# Altium schematic symbol library projet_6e_session.SchLib: 18 symbols
Pins are listed as number, name and electrical type; pins without a type are passive.

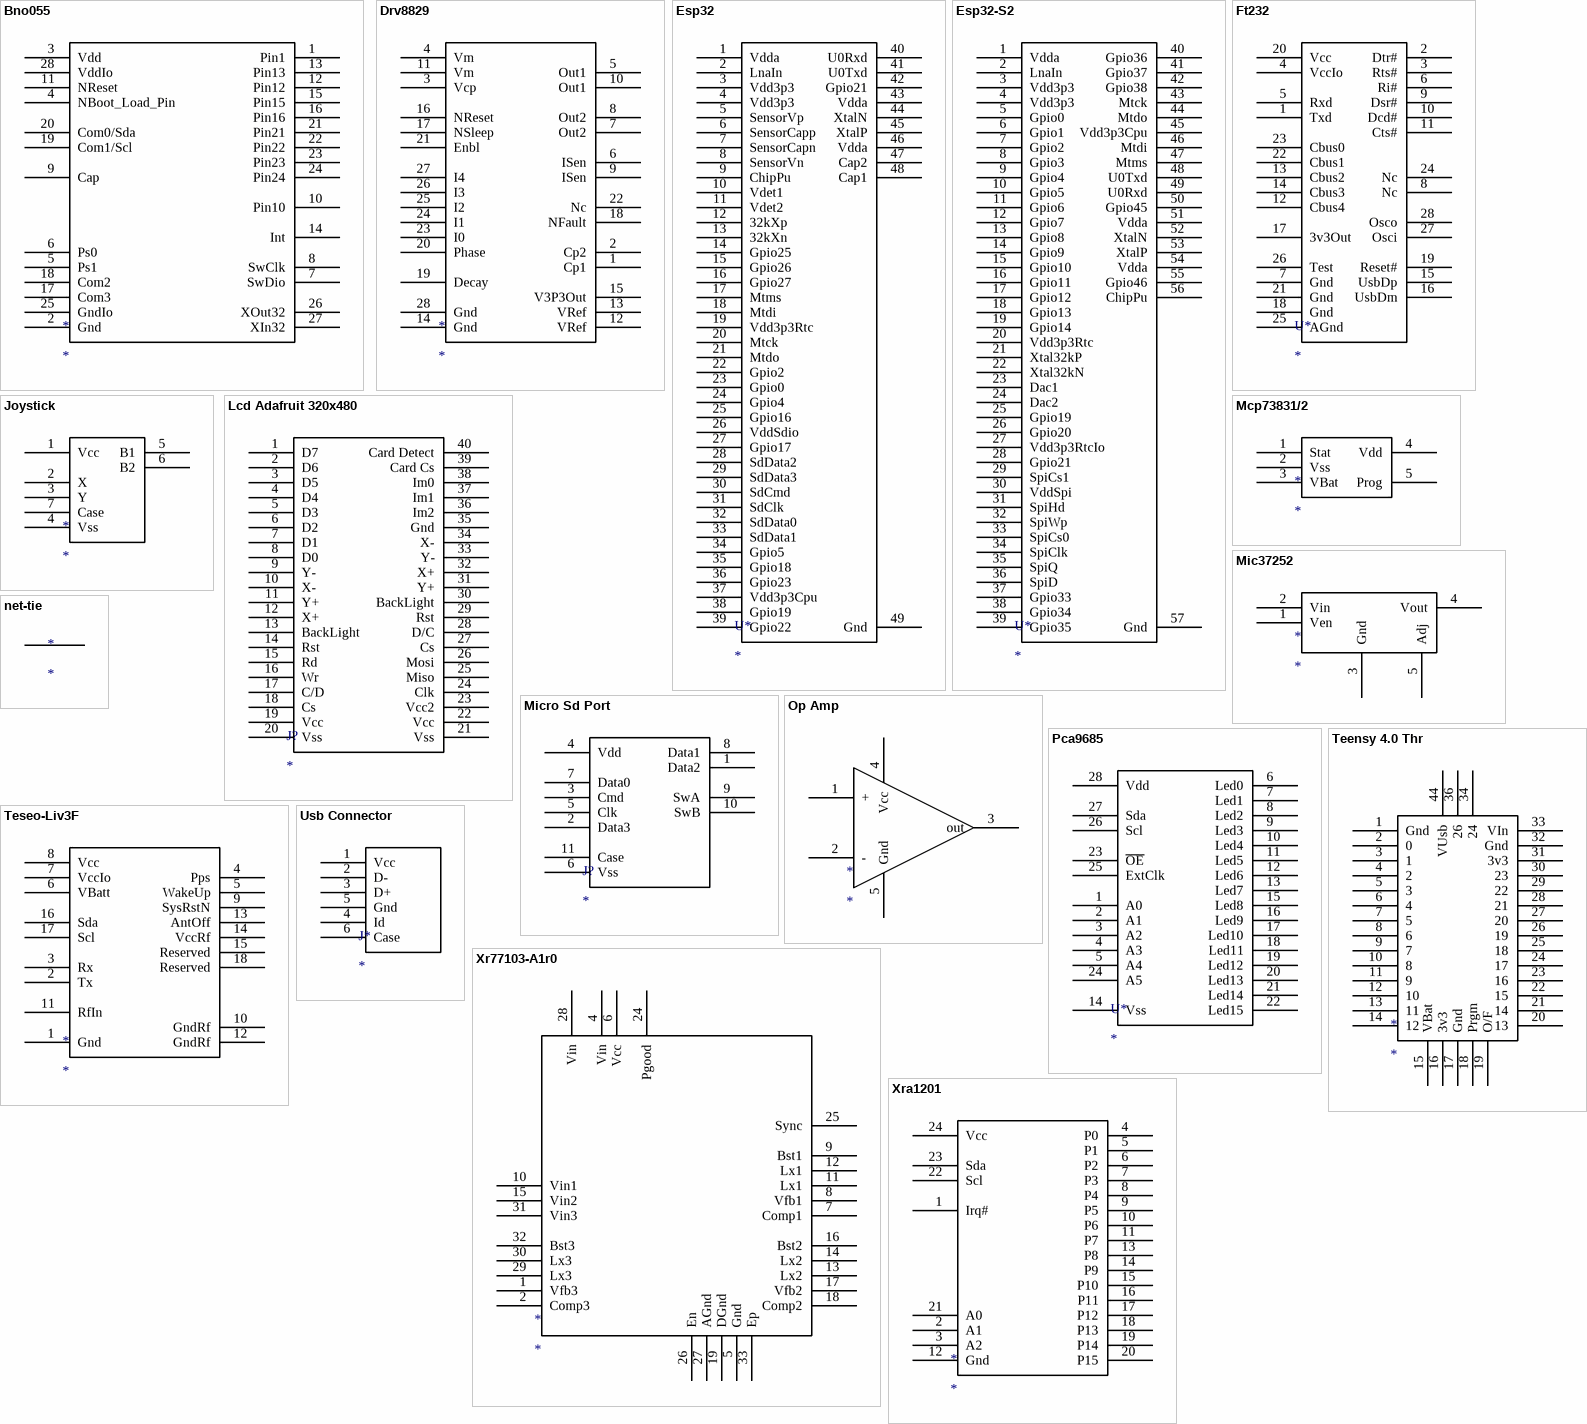
[diagram p0: symbols Bno055 to Xra1201]

## Bno055
designator *
pins: 1 Pin1, 2 Gnd, 3 Vdd, 4 NBoot_Load_Pin, 5 Ps1, 6 Ps0, 7 SwDio, 8 SwClk, 9 Cap, 10 Pin10, 11 NReset, 12 Pin12, 13 Pin13, 14 Int, 15 Pin15, 16 Pin16, 17 Com3, 18 Com2, 19 Com1/Scl, 20 Com0/Sda, 21 Pin21, 22 Pin22, 23 Pin23, 24 Pin24, 25 GndIo, 26 XOut32, 27 XIn32, 28 VddIo

## Drv8829
designator *
pins: 1 Cp1, 2 Cp2, 3 Vcp, 4 Vm, 5 Out1, 6 ISen, 7 Out2, 8 Out2, 9 ISen, 10 Out1, 11 Vm, 12 VRef, 13 VRef, 14 Gnd, 15 V3P3Out, 16 NReset, 17 NSleep, 18 NFault, 19 Decay, 20 Phase, 21 Enbl, 22 Nc, 23 I0, 24 I1, 25 I2, 26 I3, 27 I4, 28 Gnd

## Esp32
designator U*
pins: 1 Vdda, 2 LnaIn, 3 Vdd3p3, 4 Vdd3p3, 5 SensorVp, 6 SensorCapp, 7 SensorCapn, 8 SensorVn, 9 ChipPu, 10 Vdet1, 11 Vdet2, 12 32kXp, 13 32kXn, 14 Gpio25, 15 Gpio26, 16 Gpio27, 17 Mtms, 18 Mtdi, 19 Vdd3p3Rtc, 20 Mtck, 21 Mtdo, 22 Gpio2, 23 Gpio0, 24 Gpio4, 25 Gpio16, 26 VddSdio, 27 Gpio17, 28 SdData2, 29 SdData3, 30 SdCmd, 31 SdClk, 32 SdData0, 33 SdData1, 34 Gpio5, 35 Gpio18, 36 Gpio23, 37 Vdd3p3Cpu, 38 Gpio19, 39 Gpio22, 40 U0Rxd, 41 U0Txd, 42 Gpio21, 43 Vdda, 44 XtalN, 45 XtalP, 46 Vdda, 47 Cap2, 48 Cap1, 49 Gnd

## Esp32-S2
designator U*
pins: 1 Vdda, 2 LnaIn, 3 Vdd3p3, 4 Vdd3p3, 5 Gpio0, 6 Gpio1, 7 Gpio2, 8 Gpio3, 9 Gpio4, 10 Gpio5, 11 Gpio6, 12 Gpio7, 13 Gpio8, 14 Gpio9, 15 Gpio10, 16 Gpio11, 17 Gpio12, 18 Gpio13, 19 Gpio14, 20 Vdd3p3Rtc, 21 Xtal32kP, 22 Xtal32kN, 23 Dac1, 24 Dac2, 25 Gpio19, 26 Gpio20, 27 Vdd3p3RtcIo, 28 Gpio21, 29 SpiCs1, 30 VddSpi, 31 SpiHd, 32 SpiWp, 33 SpiCs0, 34 SpiClk, 35 SpiQ, 36 SpiD, 37 Gpio33, 38 Gpio34, 39 Gpio35, 40 Gpio36, 41 Gpio37, 42 Gpio38, 43 Mtck, 44 Mtdo, 45 Vdd3p3Cpu, 46 Mtdi, 47 Mtms, 48 U0Txd, 49 U0Rxd, 50 Gpio45, 51 Vdda, 52 XtalN, 53 XtalP, 54 Vdda, 55 Gpio46, 56 ChipPu, 57 Gnd (power)

## Ft232
designator U*
pins: 1 Txd, 2 Dtr#, 3 Rts#, 4 VccIo, 5 Rxd, 6 Ri#, 7 Gnd, 8 Nc, 9 Dsr#, 10 Dcd#, 11 Cts#, 12 Cbus4, 13 Cbus2, 14 Cbus3, 15 UsbDp, 16 UsbDm, 17 3v3Out, 18 Gnd, 19 Reset#, 20 Vcc, 21 Gnd, 22 Cbus1, 23 Cbus0, 24 Nc, 25 AGnd, 26 Test, 27 Osci, 28 Osco

## Joystick
designator *
pins: 1 Vcc, 2 X, 3 Y, 4 Vss, 5 B1, 6 B2, 7 Case

## Lcd Adafruit 320x480
designator J?
pins: 1 D7, 2 D6, 3 D5, 4 D4, 5 D3, 6 D2, 7 D1, 8 D0, 9 Y-, 10 X-, 11 Y+, 12 X+, 13 BackLight, 14 Rst, 15 Rd, 16 Wr, 17 C/D, 18 Cs, 19 Vcc, 20 Vss, 21 Vss, 22 Vcc, 23 Vcc2, 24 Clk, 25 Miso, 26 Mosi, 27 Cs, 28 D/C, 29 Rst, 30 BackLight, 31 Y+, 32 X+, 33 Y-, 34 X-, 35 Gnd, 36 Im2, 37 Im1, 38 Im0, 39 Card Cs, 40 Card Detect

## Mcp73831/2
designator *
pins: 1 Stat, 2 Vss, 3 VBat, 4 Vdd, 5 Prog

## Mic37252
designator *
Adjustable low dropout regulator
pins: 1 Ven, 2 Vin, 3 Gnd, 4 Vout, 5 Adj

## Micro Sd Port
designator J?
pins: 1 Data2, 2 Data3, 3 Cmd, 4 Vdd, 5 Clk, 6 Vss, 7 Data0, 8 Data1, 9 SwA, 10 SwB, 11 Case

## net-tie
designator *
footprint net-tie
pins: 1, 2

## Op Amp
designator *
pins: 1 +, 2 -, 3 out, 4 Vcc, 5 Gnd

## Pca9685
designator U*
Serial pwm led driver
pins: 1 A0, 2 A1, 3 A2, 4 A3, 5 A4, 6 Led0, 7 Led1, 8 Led2, 9 Led3, 10 Led4, 11 Led5, 12 Led6, 13 Led7, 14 Vss, 15 Led8, 16 Led9, 17 Led10, 18 Led11, 19 Led12, 20 Led13, 21 Led14, 22 Led15, 23 ~{OE}, 24 A5, 25 ExtClk, 26 Scl, 27 Sda, 28 Vdd

## Teensy 4.0 Thr
designator *
pins: 1 Gnd, 2 0, 3 1, 4 2, 5 3, 6 4, 7 5, 8 6, 9 7, 10 8, 11 9, 12 10, 13 11, 14 12, 15 VBat, 16 3v3, 17 Gnd, 18 Prgm, 19 O/F, 20 13, 21 14, 22 15, 23 16, 24 17, 25 18, 26 19, 27 20, 28 21, 29 22, 30 23, 31 3v3, 32 Gnd, 33 VIn, 34 24, 36 26, 44 VUsb

## Teseo-Liv3F
designator *
Gps module
pins: 1 Gnd, 2 Tx, 3 Rx, 4 Pps, 5 WakeUp, 6 VBatt, 7 VccIo, 8 Vcc, 9 SysRstN, 10 GndRf, 11 RfIn, 12 GndRf, 13 AntOff, 14 VccRf, 15 Reserved, 16 Sda, 17 Scl, 18 Reserved

## Usb Connector
designator J*
pins: 1 Vcc, 2 D-, 3 D+, 4 Id, 5 Gnd, 6 Case

## Xr77103-A1r0
designator *
Dc to dc step down converter
pins: 1 Vfb3, 2 Comp3, 4 Vin, 5 Gnd, 6 Vcc, 7 Comp1, 8 Vfb1, 9 Bst1, 10 Vin1, 11 Lx1, 12 Lx1, 13 Lx2, 14 Lx2, 15 Vin2, 16 Bst2, 17 Vfb2, 18 Comp2, 19 DGnd, 24 Pgood, 25 Sync, 26 En, 27 AGnd, 28 Vin, 29 Lx3, 30 Lx3, 31 Vin3, 32 Bst3, 33 Ep

## Xra1201
designator *
pins: 1 Irq#, 2 A1, 3 A2, 4 P0, 5 P1, 6 P2, 7 P3, 8 P4, 9 P5, 10 P6, 11 P7, 12 Gnd, 13 P8, 14 P9, 15 P10, 16 P11, 17 P12, 18 P13, 19 P14, 20 P15, 21 A0, 22 Scl, 23 Sda, 24 Vcc